# EAGLE library part EMBER_ISA (library BERGCloud-OSH)
Ember ISA programming/debug headers. Created by AH. BERG Cloud <http://www.bergcloud.com>
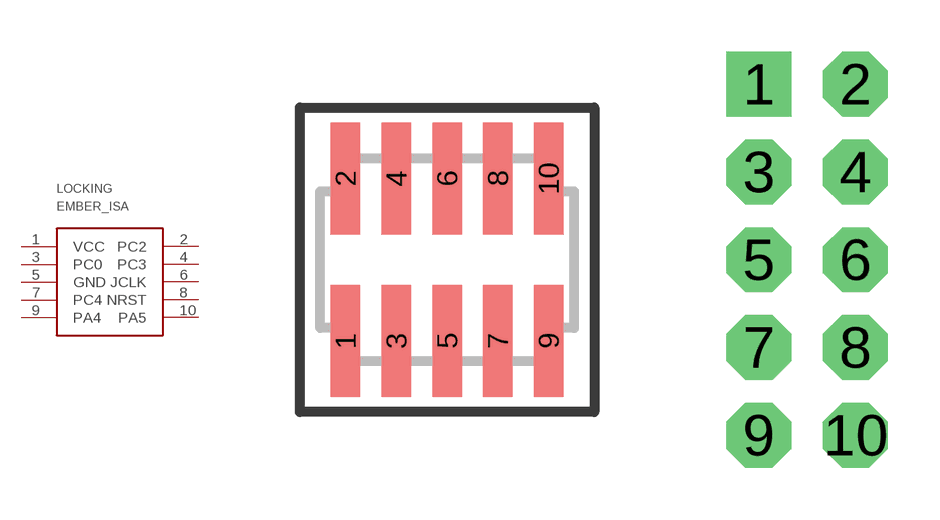
[diagram p0: symbol with the pads of FTSH-105-01-XXX-DV-K; footprints FTSH-105-01-XXX-DV-K, 2X5_LOCKING_2.54HEADERS]

Designator prefix LOCKING

## EMBER_ISAHEADERS-1.27MM  [FTSH-105-01-XXX-DV-K]
1  VCC
2  PC2
3  PC0
4  PC3
5  GND
6  JCLK
7  PC4
8  NRST
9  PA4
10  PA5

## EMBER_ISALOCKING-2.54MM  [2X5_LOCKING_2.54HEADERS]
Pads as for FTSH-105-01-XXX-DV-K

## EMBER_ISASHROUDED-1.27MM  [SHF-105-01-L-D-SM]
Pads as for FTSH-105-01-XXX-DV-K

## Footprint FTSH-105-01-XXX-DV-K (pad centres in mm)
TERMINAL STRIP, .050 inch(1.27mm) PITCH, 10 PINS, KEYED
smd 0.737 x 2.794: 1 -2.54,-2.032; 2 -2.54,2.032; 3 -1.27,-2.032; 4 -1.27,2.032; 5 0,-2.032; 6 0,2.032; 7 1.27,-2.032; 8 1.27,2.032; 9 2.54,-2.032; 10 2.54,2.032

## Footprint 2X5_LOCKING_2.54HEADERS (pad centres in mm)
drill 1.016 pad 1.88 square: 1 -1.397,5.08
drill 1.016 pad 1.88 octagon: 2 1.397,5.08; 3 -1.397,2.54; 4 1.397,2.54; 5 -1.397,0; 6 1.397,0; 7 -1.397,-2.54; 8 1.397,-2.54; 9 -1.397,-5.08; 10 1.397,-5.08

## Footprint SHF-105-01-L-D-SM (pad centres in mm)
smd 0.737 x 2.794: 1 -2.54,-2.032; 2 -2.54,2.032; 3 -1.27,-2.032; 4 -1.27,2.032; 5 0,-2.032; 6 0,2.032; 7 1.27,-2.032; 8 1.27,2.032; 9 2.54,-2.032; 10 2.54,2.032